# EAGLE library part SN74LVC2G126DCU (library vikc-ic)
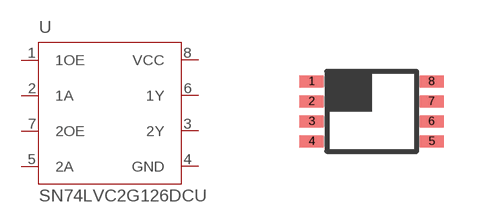
[diagram p4: symbol with the pads of DCU_R-PDSO-G8; footprint DCU_R-PDSO-G8]

Designator prefix U

## SN74LVC2G126DCU  [DCU_R-PDSO-G8]
1  1OE  in
2  1A  in
3  2Y  out
4  GND  pwr
5  2A  in
6  1Y  out
7  2OE  in
8  VCC  pwr

## Footprint DCU_R-PDSO-G8 (pad centres in mm)
DCU (R-PDSO-G8) PLASTIC SMALL-OUTLINE PACKAGE (DIE DOWN) Source: http://focus.ti.com/lit/ds/symlink/sn74lvc2g53.pdf
smd 0.6 x 0.3: 1 -1.5,0.75; 2 -1.5,0.25; 3 -1.5,-0.25; 4 -1.5,-0.75; 5 1.5,-0.75; 6 1.5,-0.25; 7 1.5,0.25; 8 1.5,0.75